# Altium footprint library MT-CHARHER  V1.0.0.PcbLib: 38 footprints (part 1 of 3)
Each footprint in its own frame and in the unit in brackets; x right, y up, seen from the top. Pads: shape width x height; smd on the part's side, far side on the other; paste and mask are expansions set on the pad; w line width, h text height; cw(c..) or ccw(c..) is an arc to the next point about the centre after c.
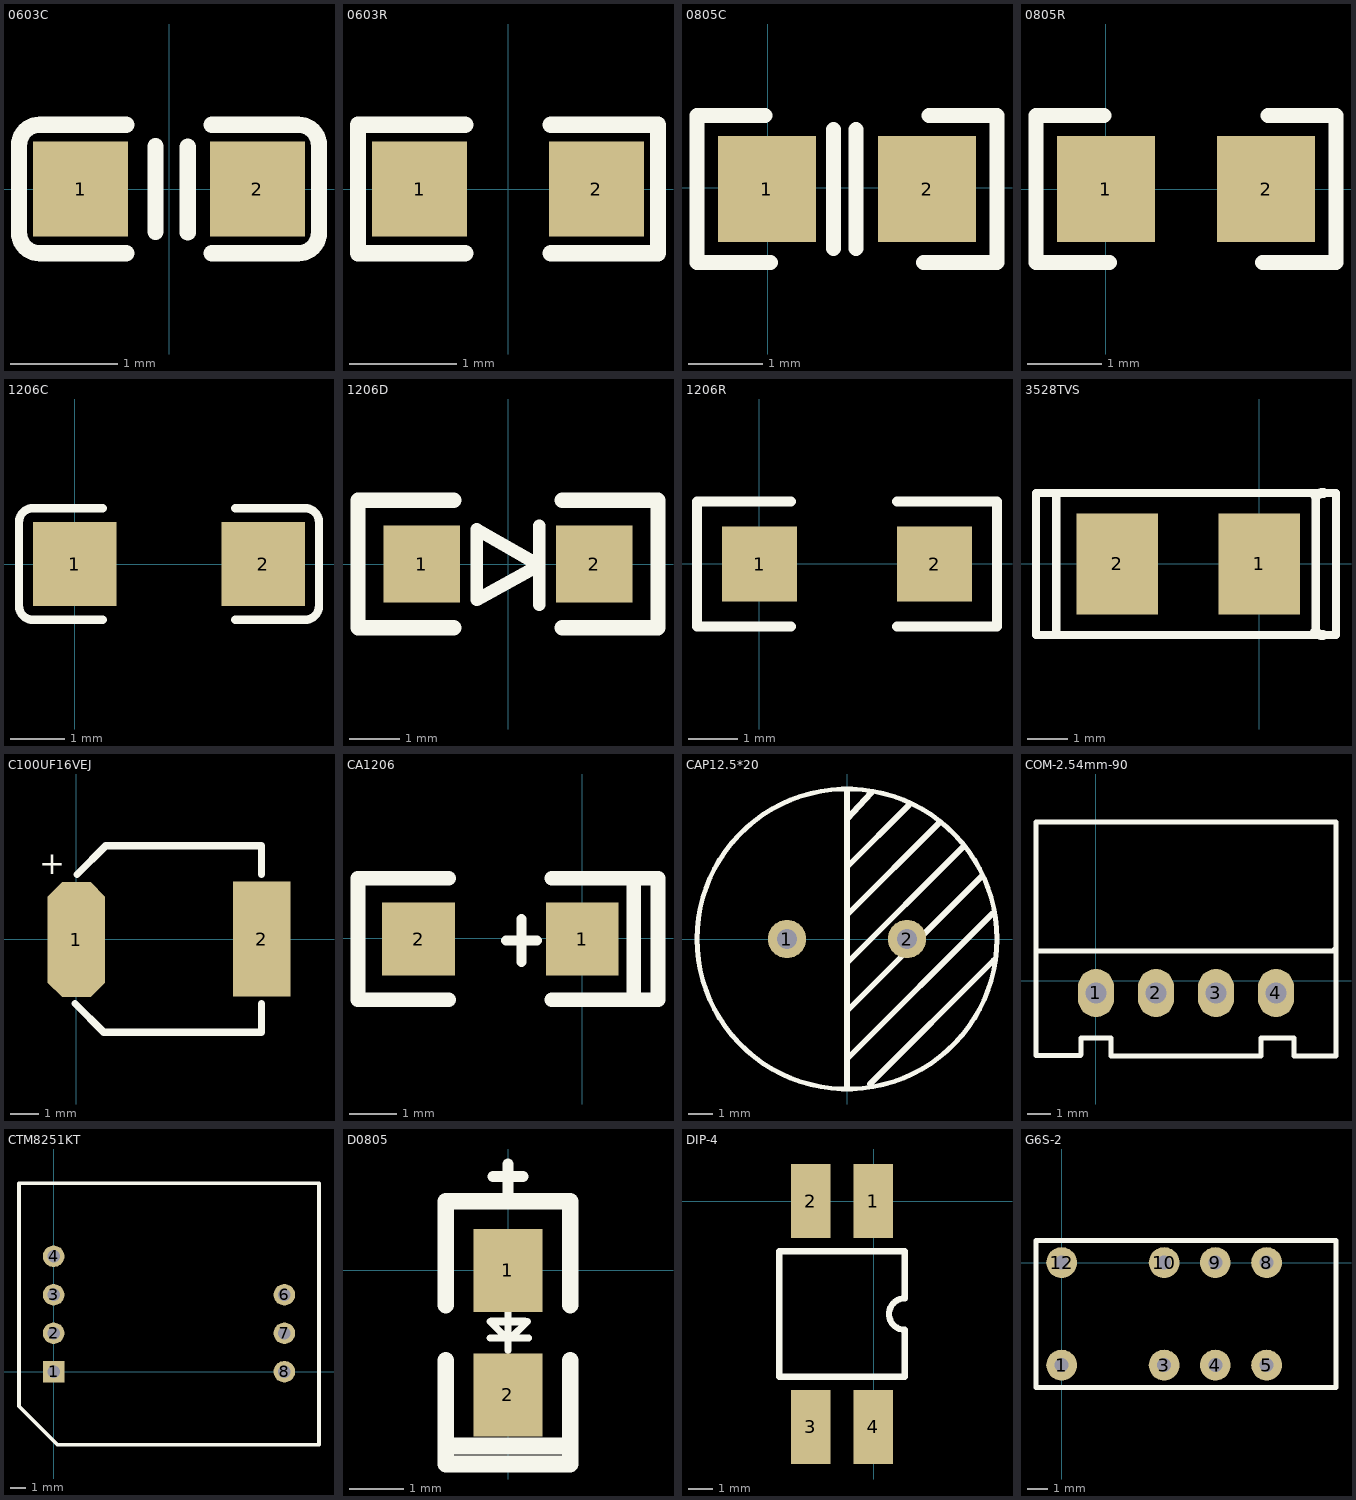
[diagram p0: the footprints below, top view; thin cyan lines are the x and y axes]

## 0603C [mil]
height 9.5
pads (2):
  rect 35x35 smd: 1(-32.5,0) 2(32.5,0)
Top Overlay:
  lines w6: -15.75,-23.62 -47.5,-23.62 cw(c-47.5,-16) -55.12,-16 -55.12,16 cw(c-47.5,16) -47.5,23.62 -15.75,23.62 ; -4.94,-15.75 -4.94,15.75 ; 6.87,-16 6.87,15.5 ; 15.75,-23.62 47.5,-23.62 ccw(c47.5,-16) 55.12,-16 55.12,16 ccw(c47.5,16) 47.5,23.62 15.75,23.62

## 0603R [mil]
height 9.5
pads (2):
  rect 35x35 smd: 1(-32.5,0) 2(32.5,0)
Top Overlay:
  lines w6: -15.75,-23.62 -55.12,-23.62 -55.12,23.62 -15.75,23.62 ; 15.74,-23.62 55.11,-23.62 55.11,23.62 15.74,23.62

## 0805C [mil]
pads (2):
  rect 52x56 smd: 1(-0.58,-0.68) 2(84.42,-0.68)
Top Overlay:
  lines w7.87: -1.58,38.32 -37.58,38.32 -37.58,-39.68 1.42,-39.68 ; 34.86,-32.17 34.86,30.82 ; 46.67,-32.17 46.67,30.82 ; 82.42,-39.68 121.42,-39.68 121.42,38.32 85.42,38.32

## 0805R [mil]
height 9.5
pads (2):
  rect 52x56 smd: 1(0,0) 2(85,0)
Top Overlay:
  lines w8: -1,39 -37,39 -37,-39 2,-39 ; 83,-39 122,-39 122,39 86,39

## 1206C [mil]
height 9.5
pads (2):
  rect 60x60 smd: 1(0,0) 2(135,0)
Top Overlay:
  lines w6: 20,-40 -30,-40 cw(c-30,-30) -40,-30 -40,30 cw(c-30,30) -30,40 20,40 ; 115,-40 165,-40 ccw(c165,-30) 175,-30 175,30 ccw(c165,30) 165,40 115,40

## 1206D [mil]
height 9.5
pads (2):
  rect 60x60 smd: 1(-67.5,0) 2(67.5,0)
Top Overlay:
  lines w10: 24.5,-32 24.5,30 ; -24.5,-28 24.5,-1 -24.5,27 -24.5,-28
  lines w12: -42.5,-50 -117.5,-50 -117.5,50 -42.5,50 ; 42.5,-50 117.5,-50 117.5,50 42.5,50

## 1206R [mil]
pads (2):
  rect 60x60 smd: 1(0.33,-0.04) 2(140.33,-0.04)
Top Overlay:
  lines w8: 25.33,-50.04 -49.67,-50.04 -49.67,49.96 25.33,49.96 ; 110.33,-50.04 190.33,-50.04 190.33,49.96 110.33,49.96

## 3528TVS [mil]
pads (2):
  rect 80x100 smd: 1(0.09,-0.25) 2(-139.91,-0.25)
Top Overlay:
  lines w8: -199.91,-70.25 -199.91,69.75 ; 55.68,-70.25 55.68,69.75 ; 60.09,-70.25 -219.91,-70.25 -219.91,69.75 60.09,69.75 ; 62.62,-70.25 75.68,-70.25 75.68,69.75 63.09,69.75
  lines w10: 55.2,-67.18 ccw(c62.62,-59.77) 62.62,-70.25 ; 55.68,66.68 cw(c63.09,59.27) 63.09,69.75

## C100UF16VEJ [mil]
pads (2):
  oct 80x160 smd: 1(-0.01,-0.43)
  rect 80x160 smd: 2(257.94,0.35)
Top Overlay:
  lines w10: -2,-89.64 38,-129.65 257.94,-129.65 257.94,-89.64 ; 0.77,90.36 40.77,130.35 257.94,130.35 257.94,90.36
  text "+" at -52.06,90.35 h31.5

## CA1206 [mil]
pads (2):
  rect 60x60 smd: 1(-0.08,-0.48) 2(-135.08,-0.48)
Top Overlay:
  lines w8: -63.03,-1.66 -37.44,-1.66 ; -50.24,-19.38 -50.24,16.05
  lines w12: -110.08,-50.48 -185.08,-50.48 -185.08,49.52 -110.08,49.52 ; -25.08,-50.48 42.42,-50.48 ; -25.08,49.52 42.42,49.52 ; 42.42,-50.48 62.42,-50.48 62.42,49.52 42.42,49.52 ; 42.42,-50.48 42.42,49.52

## CAP12.5*20 [mm]
pads (2):
  round 1.6 hole 0.85: 1(-2.5,0) 2(2.5,0)
Top Overlay:
  circle w0.2: c0,0 r6.25
  lines w0.254: 0,-6.223 0,6.223 ; 0,-5 6.056,1.056 ; 0,-3 5.628,2.627 ; 0,-1 4.818,3.818 ; 0,1 3.882,4.882 ; 0,3 2.564,5.564 ; 0,5 1.016,6.096 ; 0.96,-6.04 6.104,-0.897

## COM-2.54mm-90 [mil]
pads (4):
  oval 60x80 hole 35: 1(0,-20) 2(100,-20) 3(200,-20) 4(300,-20)
Top Overlay:
  lines w7.87: -100,-124 -26,-124 -25,-123 -25,-95 25,-95 25,-125 275,-125 275,-95 320,-95 330,-95 330,-125 400,-125 400,150
  lines w8: -100,-124 -100,-80 -100,150 -100,265 400,265 400,150 400,55 395,50 -100,50
3D body: height 263.78, standoff 7.87, extent 272,-60 334,20
3D body: height 263.78, standoff 7.87, extent 172,-60 234,20
3D body: height 263.78, standoff 7.87, extent 72,-60 134,20
3D body: height 263.78, standoff 7.87, extent -28,-60 34,20

## CTM8251KT [mil]
height 66.93
pads (7):
  rect 56x56 hole 32: 1(0,0)
  round 56 hole 32: 2(0,100) 3(0,200) 4(0,300) 6(600,200) 7(600,100) 8(600,0)
Top Overlay:
  lines w10: -90,-90 10,-190 690,-190 690,490 -90,490 -90,-90
3D body: height 275.59, standoff 1, extent -90,-190 690,490

## D0805 [mil]
pads (2):
  rect 50x60 smd: 1(-0.34,-0.09) 2(-0.34,-90.09)
Top Overlay:
  lines w5: -13.34,-49.09 14.66,-49.09 ; -13.34,-37.09 -1.34,-49.09 ; -0.34,-58.09 -0.34,-30.09 ; 1.66,-49.09 13.66,-37.09
  lines w6: -12.34,-37.09 11.66,-37.09
  lines w8: -11.34,67.91 10.66,67.91 ; -0.34,55.91 -0.34,76.91
  lines w12: -45.34,-127.09 44.66,-127.09 ; -45.34,-65.09 -45.34,-140.09 44.66,-140.09 44.66,-65.09 ; -45.34,-25.09 -45.34,49.91 44.66,49.91 44.66,-25.09

## DIP-4 [mm]
height 0.241
pads (4):
  rect 1.6x3 smd: 1(-0.008,0.015) 2(-2.548,0.015) 3(-2.548,-9.129) 4(-0.008,-9.129)
Top Overlay:
  lines w0.254: -3.823,-7.1 -3.823,-2.02 1.257,-2.02 1.257,-3.925 ccw(c1.257,-4.56) 1.257,-5.195 1.257,-7.1 -3.823,-7.1

## G6S-2 [mil]
pads (8):
  round 60 hole 27.56: 1(0,-200) 3(200,-200) 4(300,-200) 5(400,-200) 8(400,0) 9(300,0) 10(200,0) 12(0,0)
Top Overlay:
  lines w10: -50,-244.09 -50,43.31 535.43,43.31 535.43,-244.09 -50,-244.09